# EAGLE library part ESP32-PICO-D4 (library ESP32-PICO-D4)
The ESP32-PICO-D4 is a System-in-Package (SIP) module that is based on ESP32, providing complete Wi-Fi and Bluetooth functionalities. The module has a size as small as 7.0±0.1 mm×7.0±0.1 mm×0.94±0.1 mm, thus requiring minimal PCB area. The module integrates a 4-MB SPI flash
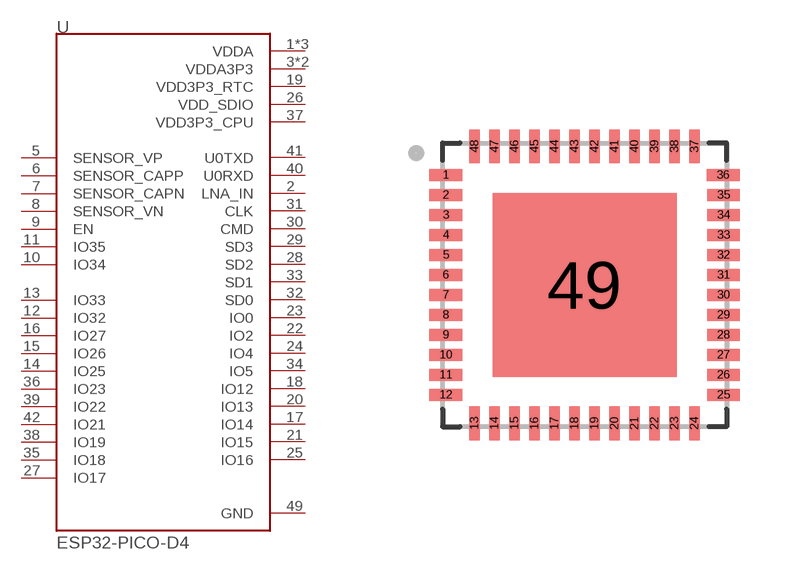
[diagram p0: symbol with the pads of PQFN50P700X700X104-49N; footprint PQFN50P700X700X104-49N]

Designator prefix U

## ESP32-PICO-D4 (AVAILABILITY: Unavailable; DESCRIPTION: WIFi/Bluetooth SIP; MF: Espressif Systems; MP: ESP32-PICO-D4; PACKAGE: SMD-48 Espressif Systems; PRICE: None)  [PQFN50P700X700X104-49N]
1  VDDA  pwr
2  LNA_IN
3  VDDA3P3  pwr
4  VDDA3P3  pwr
5  SENSOR_VP  in
6  SENSOR_CAPP  in
7  SENSOR_CAPN  in
8  SENSOR_VN  in
9  EN  in
10  IO34  in
11  IO35  in
12  IO32
13  IO33
14  IO25
15  IO26
16  IO27
17  IO14
18  IO12
19  VDD3P3_RTC  pwr
20  IO13
21  IO15
22  IO2
23  IO0
24  IO4
25  IO16
26  VDD_SDIO  pwr
27  IO17
28  SD2
29  SD3
30  CMD
31  CLK
32  SD0
33  SD1
34  IO5
35  IO18
36  IO23
37  VDD3P3_CPU  pwr
38  IO19
39  IO22
40  U0RXD
41  U0TXD
42  IO21
43  VDDA  pwr
46  VDDA  pwr
49  GND  pwr

## Footprint PQFN50P700X700X104-49N (pad centres in mm)
smd 0.85 x 0.3: 1 -3.465,2.75; 2 -3.465,2.25; 3 -3.465,1.75; 4 -3.465,1.25; 5 -3.465,0.75; 6 -3.465,0.25; 7 -3.465,-0.25; 8 -3.465,-0.75; 9 -3.465,-1.25; 10 -3.465,-1.75; 11 -3.465,-2.25; 12 -3.465,-2.75; 25 3.475,-2.75; 26 3.475,-2.25; 27 3.475,-1.75; 28 3.475,-1.25; 29 3.475,-0.75; 30 3.475,-0.25; 31 3.475,0.25; 32 3.475,0.75; 33 3.475,1.25; 34 3.475,1.75; 35 3.475,2.25; 36 3.465,2.75
smd 0.3 x 0.85: 13 -2.75,-3.465; 14 -2.25,-3.465; 15 -1.75,-3.465; 16 -1.25,-3.465; 17 -0.75,-3.465; 18 -0.25,-3.465; 19 0.25,-3.465; 20 0.75,-3.465; 21 1.25,-3.465; 22 1.75,-3.465; 23 2.25,-3.465; 24 2.75,-3.465; 37 2.75,3.465; 38 2.25,3.465; 39 1.75,3.465; 40 1.25,3.465; 41 0.75,3.465; 42 0.25,3.465; 43 -0.25,3.465; 44 -0.75,3.465; 45 -1.25,3.465; 46 -1.75,3.465; 47 -2.25,3.465; 48 -2.75,3.465
smd 4.6 x 4.6: 49 0,0